# Altium footprint library QFN.PCBLIB: 11 footprints
Each footprint in its own frame and in the unit in brackets; x right, y up, seen from the top. Pads: shape width x height; smd on the part's side, far side on the other; paste and mask are expansions set on the pad; w line width, h text height; cw(c..) or ccw(c..) is an arc to the next point about the centre after c.
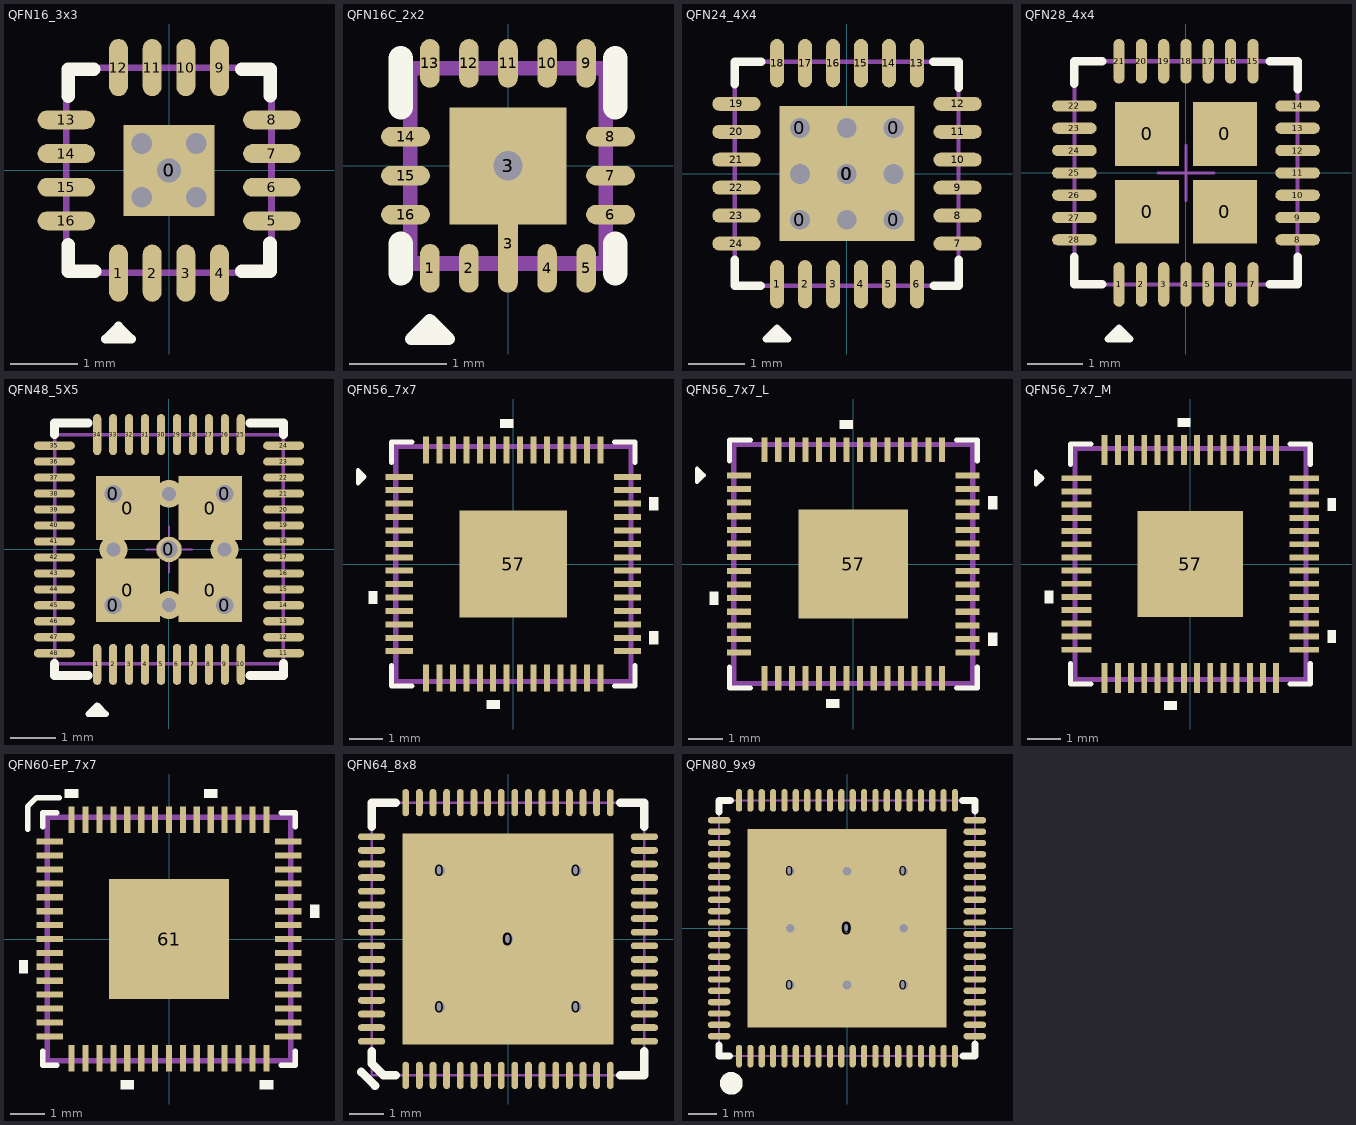
[diagram p0: the footprints below, top view; thin cyan lines are the x and y axes]

## QFN16_3x3 [mm]
pads (18):
  round 0.508 hole 0.356: 0(0,0)
  rect 1.35x1.35 smd mask+0.051: 0(0,0)
  oval 0.28x0.85 smd mask+0.051: 1(-0.75,-1.526) 2(-0.25,-1.526) 3(0.25,-1.526) 4(0.75,-1.526) 9(0.75,1.526) 10(0.25,1.526) 11(-0.25,1.526) 12(-0.75,1.526)
  oval 0.85x0.28 smd mask+0.051: 5(1.526,-0.75) 6(1.526,-0.25) 7(1.526,0.25) 8(1.526,0.75) 13(-1.526,0.75) 14(-1.526,0.25) 15(-1.526,-0.25) 16(-1.526,-0.75)
via -0.405,0.399 diameter 0.508 hole 0.305
via 0.405,0.399 diameter 0.508 hole 0.305
via 0.405,-0.399 diameter 0.508 hole 0.305
via -0.405,-0.399 diameter 0.508 hole 0.305
Top Overlay:
  lines w0.127: -0.75,-2.504 -0.75,-2.31 ; -0.75,-2.31 -0.944,-2.504 -0.556,-2.504 -0.75,-2.31
  lines w0.203: -1.497,-1.108 -1.497,-1.5 -1.105,-1.5 ; -1.497,1.105 -1.497,1.5 -1.118,1.5 ; 1.079,-1.5 1.5,-1.5 1.5,-1.08 ; 1.082,1.5 1.503,1.5 1.503,1.108
Top 元件外形:
  lines w0.1: -1.524,-1.519 1.521,-1.519 1.521,1.523 -1.524,1.523 -1.524,-1.519
Top 中心点:
  lines w0.051: -0.5,0 0.5,0 ; 0,-0.5 0,0.5
3D body: height 0.25, standoff 0, extent -1.521,-1.519 1.521,1.523

## QFN16C_2x2 [mm]
pads (18):
  oval 0.2x0.5 smd mask+0.051: 1(-0.8,-1.05) 2(-0.4,-1.05) 4(0.4,-1.05) 5(0.8,-1.05) 9(0.8,1.05) 10(0.4,1.05) 11(0,1.05) 12(-0.4,1.05) 13(-0.8,1.05)
  oval 0.2x1 smd mask+0.051: 3(0,-0.8)
  round 0.5 hole 0.3 mask+0.051: 3(0,0)
  rect 1.2x1.2 smd mask+0.051: 3(0,0)
  oval 0.5x0.2 smd mask+0.051: 6(1.05,-0.5) 7(1.05,-0.1) 8(1.05,0.3) 14(-1.05,0.3) 15(-1.05,-0.1) 16(-1.05,-0.5)
Top Overlay:
  lines w0.127: -0.8,-1.774 -0.8,-1.58 ; -0.8,-1.58 -0.994,-1.774 -0.606,-1.774 -0.8,-1.58
  lines w0.254: -1.1,-1.1 -1.1,-0.8 ; -1.1,0.6 -1.1,1.1 ; 1.1,-1.1 1.1,-0.8 ; 1.1,0.6 1.1,1.1
Top 元件外形:
  lines w0.15: -1,-1 -1,1 1,1 1,-1 -1,-1
Top 中心点:
  lines w0.051: -0.5,0 0.5,0 ; 0,-0.5 0,0.5

## QFN24_4X4 [mil]
pads (30):
  round 20 hole 14: 0(-33,-32.3) 0(-33,32.3) 0(0,0) 0(33,-32.3) 0(33,32.3)
  rect 95x95 smd mask+2: 0(0.21,0.1)
  oval 9.84x34 smd mask+2: 1(-49,-77.7) 2(-29.32,-77.7) 3(-9.63,-77.7) 4(10.05,-77.7) 5(29.74,-77.7) 6(49.42,-77.7) 13(49.42,77.91) 14(29.74,77.91) 15(10.06,77.91) 16(-9.63,77.91) 17(-29.32,77.91) 18(-49,77.91)
  oval 34x9.84 smd mask+2: 7(78.02,-49.11) 8(78.02,-29.42) 9(78.02,-9.74) 10(78.02,9.95) 11(78.02,29.63) 12(78.02,49.32) 19(-77.59,49.32) 20(-77.59,29.63) 21(-77.59,9.95) 22(-77.59,-9.74) 23(-77.59,-29.42) 24(-77.59,-49.11)
via 0,32.3 diameter 20 hole 14
via -33,0 diameter 20 hole 14
via 0,-32.3 diameter 20 hole 14
via 33,0 diameter 20 hole 14
Top Overlay:
  lines w5: -49,-116.2 -49,-108.57 ; -49,-108.57 -41.36,-116.2 -56.64,-116.2 -49,-108.57
  lines w6: -78.77,-60.34 -78.77,-78.66 -60.32,-78.66 ; -78.77,63.08 -78.77,78.83 -60.27,78.83 ; 60.88,78.83 78.71,78.83 78.71,60.49 ; 61.26,-78.66 78.71,-78.66 78.71,-60.33
Top 元件外形:
  lines w3: -78.77,-78.66 78.71,-78.66 78.71,78.83 -78.77,78.83 -78.77,-78.66
Top 中心点:
  lines w2: -19.68,0 19.68,0 ; 0,-19.68 0,19.68
3D body "User Library-QFN24.STEP": height 35.43, standoff 0, extent -78.94,-78.94 78.94,78.94

## QFN28_4x4 [mm]
pads (32):
  rect 1.143x1.143 smd mask+0: 0(-0.699,-0.699) 0(-0.699,0.698) 0(0.699,-0.699) 0(0.699,0.698)
  oval 0.2x0.8 smd mask+0.051: 1(-1.2,-2) 2(-0.8,-2) 3(-0.4,-2) 4(0,-2) 5(0.4,-2) 6(0.8,-2) 7(1.2,-2) 15(1.2,2) 16(0.8,2) 17(0.4,2) 18(0,2) 19(-0.4,2) 20(-0.8,2) 21(-1.2,2)
  oval 0.8x0.2 smd mask+0.051: 8(2,-1.2) 9(2,-0.8) 10(2,-0.4) 11(2,0) 12(2,0.4) 13(2,0.8) 14(2,1.2) 22(-2,1.2) 23(-2,0.8) 24(-2,0.4) 25(-2,0) 26(-2,-0.4) 27(-2,-0.8) 28(-2,-1.2)
Top Overlay:
  lines w0.127: -1.2,-2.978 -1.2,-2.784 ; -1.2,-2.784 -1.006,-2.978 -1.394,-2.978 -1.2,-2.784
  lines w0.152: -2,-1.5 -2,-2 -1.5,-2 ; -2,1.6 -2,2 -1.5,2 ; 1.5,-2 2,-2 2,-1.5 ; 1.5,2 2,2 2,1.5
Top 元件外形:
  lines w0.076: -2,-2 2,-2 2,2 -2,2 -2,-2
Top 中心点:
  lines w0.051: -0.5,0 0.5,0 ; 0,-0.5 0,0.5
3D body "User Library-QFN-28_EP_4x4_Pitch0_4mm.step": height 0.54, standoff -0.02, extent -2.01,-2.01 2.01,2.01

## QFN48_5X5 [mm]
pads (57):
  round 0.559 hole 0.381 mask+0.102: 0(-1.219,-1.219) 0(-1.219,1.219) 0(0,0) 0(1.219,-1.219) 0(1.219,1.219)
  rect 1.397x1.397 smd mask+0: 0(-0.901,-0.895) 0(-0.901,0.908) 0(0.902,-0.895) 0(0.902,0.908)
  oval 0.18x0.9 smd mask+0.051: 1(-1.575,-2.519) 2(-1.225,-2.519) 3(-0.875,-2.519) 4(-0.525,-2.519) 5(-0.175,-2.519) 6(0.175,-2.519) 7(0.525,-2.519) 8(0.875,-2.519) 9(1.225,-2.519) 10(1.575,-2.519) 25(1.575,2.519) 26(1.225,2.519) 27(0.875,2.519) 28(0.525,2.519) 29(0.175,2.519) 30(-0.175,2.519) 31(-0.525,2.519) 32(-0.875,2.519) 33(-1.225,2.519) 34(-1.575,2.519)
  oval 0.9x0.18 smd mask+0.051: 11(2.514,-2.275) 12(2.514,-1.925) 13(2.514,-1.575) 14(2.514,-1.225) 15(2.514,-0.875) 16(2.514,-0.525) 17(2.514,-0.175) 18(2.514,0.175) 19(2.514,0.525) 20(2.514,0.875) 21(2.514,1.225) 22(2.514,1.575) 23(2.514,1.925) 24(2.514,2.275) 35(-2.514,2.275) 36(-2.514,1.925) 37(-2.514,1.575) 38(-2.514,1.225) 39(-2.514,0.875) 40(-2.514,0.525) 41(-2.514,0.175) 42(-2.514,-0.175) 43(-2.514,-0.525) 44(-2.514,-0.875) 45(-2.514,-1.225) 46(-2.514,-1.575) 47(-2.514,-1.925) 48(-2.514,-2.275)
via 0,1.219 diameter 0.61 hole 0.305
via -1.219,0 diameter 0.61 hole 0.305
via 0,-1.219 diameter 0.61 hole 0.305
via 1.219,0 diameter 0.61 hole 0.305
Top Overlay:
  lines w0.127: -1.575,-3.607 -1.575,-3.413 ; -1.575,-3.413 -1.381,-3.607 -1.769,-3.607 -1.575,-3.413
  lines w0.2: -2.509,-2.506 -2.509,-2.76 -1.778,-2.76 ; -2.509,2.519 -2.509,2.772 -1.778,2.772 ; 1.778,-2.76 2.509,-2.76 2.509,-2.506 ; 1.778,2.772 2.509,2.772 2.509,2.519
Top 元件外形:
  lines w0.076: -2.509,-2.506 2.509,-2.506 2.509,2.519 -2.509,2.519 -2.509,-2.506
Top 中心点:
  lines w0.051: -0.5,0 0.5,0 ; 0,-0.5 0,0.5
3D body "User Library-User Library-QFN-48(5x5).step": height 0.55, standoff -0.02, extent -2.51,-2.51 2.51,2.51

## QFN56_7x7 [mm]
pads (57):
  rect 0.808x0.179 smd paste+0: 1(-3.401,2.6) 2(-3.401,2.2) 3(-3.401,1.8) 4(-3.401,1.4) 5(-3.401,1) 6(-3.401,0.6) 7(-3.401,0.2) 8(-3.401,-0.2) 9(-3.401,-0.6) 10(-3.401,-1) 11(-3.401,-1.4) 12(-3.401,-1.8) 13(-3.401,-2.2) 14(-3.401,-2.6) 29(3.401,-2.6) 30(3.401,-2.2) 31(3.401,-1.8) 32(3.401,-1.4) 33(3.401,-1) 34(3.401,-0.6) 35(3.401,-0.2) 36(3.401,0.2) 37(3.401,0.6) 38(3.401,1) 39(3.401,1.4) 40(3.401,1.8) 41(3.401,2.2) 42(3.401,2.6)
  rect 0.179x0.808 smd paste+0: 15(-2.6,-3.401) 16(-2.2,-3.401) 17(-1.8,-3.401) 18(-1.4,-3.401) 19(-1,-3.401) 20(-0.6,-3.401) 21(-0.2,-3.401) 22(0.2,-3.401) 23(0.6,-3.401) 24(1,-3.401) 25(1.4,-3.401) 26(1.8,-3.401) 27(2.2,-3.401) 28(2.6,-3.401) 43(2.6,3.401) 44(2.2,3.401) 45(1.8,3.401) 46(1.4,3.401) 47(1,3.401) 48(0.6,3.401) 49(0.2,3.401) 50(-0.2,3.401) 51(-0.6,3.401) 52(-1,3.401) 53(-1.4,3.401) 54(-1.8,3.401) 55(-2.2,3.401) 56(-2.6,3.401)
  rect 3.2x3.2 smd paste-1.6: 57(0,0)
Top Overlay:
  region: -4.059,-0.81 -4.313,-0.81 -4.313,-1.191 -4.059,-1.191
  region: -0.409,-4.059 -0.79,-4.059 -0.79,-4.313 -0.409,-4.313
  region: 4.059,-2.01 4.313,-2.01 4.313,-2.391 4.059,-2.391
  region: 4.059,1.99 4.313,1.99 4.313,1.609 4.059,1.609
  region: -0.009,4.059 -0.39,4.059 -0.39,4.313 -0.009,4.313
  lines w0.127: -4.632,2.6 -4.438,2.6 ; -4.438,2.6 -4.632,2.406 -4.632,2.794 -4.438,2.6
  lines w0.152: -3.632,-3.022 -3.632,-3.632 -3.022,-3.632 ; -3.632,3.022 -3.632,3.632 -3.022,3.632 ; 3.022,-3.632 3.632,-3.632 3.632,-3.022 ; 3.022,3.632 3.632,3.632 3.632,3.022
Top Paste:
  region: -0.1,1.5 -1.5,1.5 -1.5,0.1 -0.1,0.1
  region: -0.1,-0.1 -1.5,-0.1 -1.5,-1.5 -0.1,-1.5
  region: 1.5,1.5 0.1,1.5 0.1,0.1 1.5,0.1
  region: 1.5,-0.1 0.1,-0.1 0.1,-1.5 1.5,-1.5
Top 元件外形:
  lines w0.152: -3.505,-3.505 -3.505,-2.943 -3.505,2.943 -3.505,3.505 -2.943,3.505 2.943,3.505 3.505,3.505 3.505,2.943 3.505,-2.943 3.505,-3.505 2.943,-3.505 -2.943,-3.505 -3.505,-3.505
Top 中心点:
  lines w0.127: -0.5,0 0.5,0 ; 0,-0.5 0,0.5
3D body "IC57_RP2040.step": height 0.89, standoff 0, extent -3.505,-3.505 3.505,3.505

## QFN56_7x7_L [mm]
pads (57):
  rect 0.708x0.179 smd paste+0: 1(-3.351,2.6) 2(-3.351,2.2) 3(-3.351,1.8) 4(-3.351,1.4) 5(-3.351,1) 6(-3.351,0.6) 7(-3.351,0.2) 8(-3.351,-0.2) 9(-3.351,-0.6) 10(-3.351,-1) 11(-3.351,-1.4) 12(-3.351,-1.8) 13(-3.351,-2.2) 14(-3.351,-2.6) 29(3.351,-2.6) 30(3.351,-2.2) 31(3.351,-1.8) 32(3.351,-1.4) 33(3.351,-1) 34(3.351,-0.6) 35(3.351,-0.2) 36(3.351,0.2) 37(3.351,0.6) 38(3.351,1) 39(3.351,1.4) 40(3.351,1.8) 41(3.351,2.2) 42(3.351,2.6)
  rect 0.179x0.708 smd paste+0: 15(-2.6,-3.351) 16(-2.2,-3.351) 17(-1.8,-3.351) 18(-1.4,-3.351) 19(-1,-3.351) 20(-0.6,-3.351) 21(-0.2,-3.351) 22(0.2,-3.351) 23(0.6,-3.351) 24(1,-3.351) 25(1.4,-3.351) 26(1.8,-3.351) 27(2.2,-3.351) 28(2.6,-3.351) 43(2.6,3.351) 44(2.2,3.351) 45(1.8,3.351) 46(1.4,3.351) 47(1,3.351) 48(0.6,3.351) 49(0.2,3.351) 50(-0.2,3.351) 51(-0.6,3.351) 52(-1,3.351) 53(-1.4,3.351) 54(-1.8,3.351) 55(-2.2,3.351) 56(-2.6,3.351)
  rect 3.2x3.2 smd paste-1.6: 57(0,0)
Top Overlay:
  region: -0.009,3.959 -0.39,3.959 -0.39,4.213 -0.009,4.213
  region: 3.959,1.99 4.213,1.99 4.213,1.609 3.959,1.609
  region: 3.959,-2.01 4.213,-2.01 4.213,-2.391 3.959,-2.391
  region: -0.409,-3.959 -0.79,-3.959 -0.79,-4.213 -0.409,-4.213
  region: -3.959,-0.81 -4.213,-0.81 -4.213,-1.191 -3.959,-1.191
  lines w0.127: -4.582,2.6 -4.388,2.6 ; -4.582,2.406 -4.388,2.6 ; -4.582,2.406 -4.582,2.406 ; -4.582,2.406 -4.582,2.794 ; -4.582,2.794 -4.388,2.6 ; -4.582,2.794 -4.582,2.794
  lines w0.152: -3.632,-3.022 -3.632,-3.632 -3.022,-3.632 ; -3.632,3.022 -3.632,3.632 -3.022,3.632 ; 3.022,-3.632 3.632,-3.632 3.632,-3.022 ; 3.022,3.632 3.632,3.632 3.632,3.022
Top Paste:
  region: 1.5,-0.1 0.1,-0.1 0.1,-1.5 1.5,-1.5
  region: 1.5,1.5 0.1,1.5 0.1,0.1 1.5,0.1
  region: -0.1,-0.1 -1.5,-0.1 -1.5,-1.5 -0.1,-1.5
  region: -0.1,1.5 -1.5,1.5 -1.5,0.1 -0.1,0.1
Top 元件外形:
  lines w0.152: -3.505,-3.505 -3.505,3.505 3.505,3.505 3.505,-3.505 -3.505,-3.505
Top 中心点:
  lines w0.127: -0.5,0 0.5,0 ; 0,-0.5 0,0.5
3D body "IC57_RP2040.step": height 0.89, standoff 0, extent -3.505,-3.505 3.505,3.505

## QFN56_7x7_M [mm]
pads (57):
  rect 0.908x0.179 smd paste+0: 1(-3.451,2.6) 2(-3.451,2.2) 3(-3.451,1.8) 4(-3.451,1.4) 5(-3.451,1) 6(-3.451,0.6) 7(-3.451,0.2) 8(-3.451,-0.2) 9(-3.451,-0.6) 10(-3.451,-1) 11(-3.451,-1.4) 12(-3.451,-1.8) 13(-3.451,-2.2) 14(-3.451,-2.6) 29(3.451,-2.6) 30(3.451,-2.2) 31(3.451,-1.8) 32(3.451,-1.4) 33(3.451,-1) 34(3.451,-0.6) 35(3.451,-0.2) 36(3.451,0.2) 37(3.451,0.6) 38(3.451,1) 39(3.451,1.4) 40(3.451,1.8) 41(3.451,2.2) 42(3.451,2.6)
  rect 0.179x0.908 smd paste+0: 15(-2.6,-3.451) 16(-2.2,-3.451) 17(-1.8,-3.451) 18(-1.4,-3.451) 19(-1,-3.451) 20(-0.6,-3.451) 21(-0.2,-3.451) 22(0.2,-3.451) 23(0.6,-3.451) 24(1,-3.451) 25(1.4,-3.451) 26(1.8,-3.451) 27(2.2,-3.451) 28(2.6,-3.451) 43(2.6,3.451) 44(2.2,3.451) 45(1.8,3.451) 46(1.4,3.451) 47(1,3.451) 48(0.6,3.451) 49(0.2,3.451) 50(-0.2,3.451) 51(-0.6,3.451) 52(-1,3.451) 53(-1.4,3.451) 54(-1.8,3.451) 55(-2.2,3.451) 56(-2.6,3.451)
  rect 3.2x3.2 smd paste-1.6: 57(0,0)
Top Overlay:
  region: -0.009,4.159 -0.39,4.159 -0.39,4.413 -0.009,4.413
  region: 4.159,1.99 4.413,1.99 4.413,1.609 4.159,1.609
  region: 4.159,-2.01 4.413,-2.01 4.413,-2.391 4.159,-2.391
  region: -0.409,-4.159 -0.79,-4.159 -0.79,-4.413 -0.409,-4.413
  region: -4.159,-0.81 -4.413,-0.81 -4.413,-1.191 -4.159,-1.191
  lines w0.127: -4.682,2.6 -4.488,2.6 ; -4.682,2.406 -4.682,2.794 ; -4.682,2.406 -4.682,2.406 ; -4.682,2.406 -4.488,2.6 ; -4.682,2.794 -4.682,2.794 ; -4.682,2.794 -4.488,2.6
  lines w0.152: -3.632,-3.022 -3.632,-3.632 -3.022,-3.632 ; -3.632,3.022 -3.632,3.632 -3.022,3.632 ; 3.022,-3.632 3.632,-3.632 3.632,-3.022 ; 3.022,3.632 3.632,3.632 3.632,3.022
Top Paste:
  region: 1.5,-0.1 0.1,-0.1 0.1,-1.5 1.5,-1.5
  region: 1.5,1.5 0.1,1.5 0.1,0.1 1.5,0.1
  region: -0.1,-0.1 -1.5,-0.1 -1.5,-1.5 -0.1,-1.5
  region: -0.1,1.5 -1.5,1.5 -1.5,0.1 -0.1,0.1
Top 元件外形:
  lines w0.152: -3.505,-3.505 -3.505,3.505 3.505,3.505 3.505,-3.505 -3.505,-3.505
Top 中心点:
  lines w0.127: -0.5,0 0.5,0 ; 0,-0.5 0,0.5
3D body "IC57_RP2040.step": height 0.89, standoff 0, extent -3.505,-3.505 3.505,3.505

## QFN60-EP_7x7 [mm]
pads (61):
  rect 0.757x0.179 smd: 1(-3.427,2.8) 2(-3.427,2.4) 3(-3.427,2) 4(-3.427,1.6) 5(-3.427,1.2) 6(-3.427,0.8) 7(-3.427,0.4) 8(-3.427,0) 9(-3.427,-0.4) 10(-3.427,-0.8) 11(-3.427,-1.2) 12(-3.427,-1.6) 13(-3.427,-2) 14(-3.427,-2.4) 15(-3.427,-2.8) 31(3.427,-2.8) 32(3.427,-2.4) 33(3.427,-2) 34(3.427,-1.6) 35(3.427,-1.2) 36(3.427,-0.8) 37(3.427,-0.4) 38(3.427,0) 39(3.427,0.4) 40(3.427,0.8) 41(3.427,1.2) 42(3.427,1.6) 43(3.427,2) 44(3.427,2.4) 45(3.427,2.8)
  rect 0.179x0.757 smd: 16(-2.8,-3.427) 17(-2.4,-3.427) 18(-2,-3.427) 19(-1.6,-3.427) 20(-1.2,-3.427) 21(-0.8,-3.427) 22(-0.4,-3.427) 23(0,-3.427) 24(0.4,-3.427) 25(0.8,-3.427) 26(1.2,-3.427) 27(1.6,-3.427) 28(2,-3.427) 29(2.4,-3.427) 30(2.8,-3.427) 46(2.8,3.427) 47(2.4,3.427) 48(2,3.427) 49(1.6,3.427) 50(1.2,3.427) 51(0.8,3.427) 52(0.4,3.427) 53(0,3.427) 54(-0.4,3.427) 55(-0.8,3.427) 56(-1.2,3.427) 57(-1.6,3.427) 58(-2,3.427) 59(-2.4,3.427) 60(-2.8,3.427)
  rect 3.454x3.454 smd: 61(0,0)
Top Overlay:
  region: -4.059,-0.61 -4.313,-0.61 -4.313,-0.991 -4.059,-0.991
  region: -1.01,-4.059 -1.391,-4.059 -1.391,-4.313 -1.01,-4.313
  region: 2.99,-4.059 2.609,-4.059 2.609,-4.313 2.99,-4.313
  region: 4.059,0.991 4.313,0.991 4.313,0.61 4.059,0.61
  region: 1.391,4.059 1.01,4.059 1.01,4.313 1.391,4.313
  region: -2.609,4.059 -2.99,4.059 -2.99,4.313 -2.609,4.313
  lines w0.152: -4.064,3.146 -4.064,3.81 -3.81,4.064 -3.146,4.064 ; -3.632,-3.222 -3.632,-3.632 -3.222,-3.632 ; -3.632,3.222 -3.632,3.632 -3.222,3.632 ; 3.222,-3.632 3.632,-3.632 3.632,-3.222 ; 3.222,3.632 3.632,3.632 3.632,3.222
Top Paste:
  region: -0.1,1.627 -1.627,1.627 -1.627,0.1 -0.1,0.1
  region: -0.1,-0.1 -1.627,-0.1 -1.627,-1.627 -0.1,-1.627
  region: 1.627,1.627 0.1,1.627 0.1,0.1 1.627,0.1
  region: 1.627,-0.1 0.1,-0.1 0.1,-1.627 1.627,-1.627
Top 元件外形:
  lines w0.152: -3.505,-3.505 -3.505,-3.143 -3.505,3.143 -3.505,3.505 -3.143,3.505 3.143,3.505 3.505,3.505 3.505,3.143 3.505,-3.143 3.505,-3.505 -3.143,-3.505 -3.505,-3.505
3D body "QFN-60_7X7_RPI.step": height 0.89, standoff 0, extent -3.505,-3.505 3.505,3.505

## QFN64_8x8 [mm]
pads (70):
  round 0.61 hole 0.305 mask+0.051: 0(-2,-2) 0(-2,2) 0(0,0) 0(2,-2) 0(2,2)
  rect 6.2x6.2 smd mask+0.051: 0(0,0)
  oval 0.2x0.8 smd mask+0.051: 1(-3,-4) 2(-2.6,-4) 3(-2.2,-4) 4(-1.8,-4) 5(-1.4,-4) 6(-1,-4) 7(-0.6,-4) 8(-0.2,-4) 9(0.2,-4) 10(0.6,-4) 11(1,-4) 12(1.4,-4) 13(1.8,-4) 14(2.2,-4) 15(2.6,-4) 16(3,-4) 33(3,4) 34(2.6,4) 35(2.2,4) 36(1.8,4) 37(1.4,4) 38(1,4) 39(0.6,4) 40(0.2,4) 41(-0.2,4) 42(-0.6,4) 43(-1,4) 44(-1.4,4) 45(-1.8,4) 46(-2.2,4) 47(-2.6,4) 48(-3,4)
  oval 0.8x0.2 smd mask+0.051: 17(4,-3) 18(4,-2.6) 19(4,-2.2) 20(4,-1.8) 21(4,-1.4) 22(4,-1) 23(4,-0.6) 24(4,-0.2) 25(4,0.2) 26(4,0.6) 27(4,1) 28(4,1.4) 29(4,1.8) 30(4,2.2) 31(4,2.6) 32(4,3) 49(-4,3) 50(-4,2.6) 51(-4,2.2) 52(-4,1.8) 53(-4,1.4) 54(-4,1) 55(-4,0.6) 56(-4,0.2) 57(-4,-0.2) 58(-4,-0.6) 59(-4,-1) 60(-4,-1.4) 61(-4,-1.8) 62(-4,-2.2) 63(-4,-2.6) 64(-4,-3)
Top Overlay:
  lines w0.254: -4.3,-3.9 -3.9,-4.3 ; -4,-3.3 -4,-3.65 -3.65,-4 -3.3,-4 ; -4,3.3 -4,4 -3.3,4 ; 3.3,-4 4,-4 4,-3.3 ; 3.3,4 4,4 4,3.3
Top 元件外形:
  lines w0.076: -4,-4 -4,4 4,4 4,-4 -4,-4
Top 中心点:
  lines w0.051: -0.5,0 0.5,0 ; 0,-0.5 0,0.5

## QFN80_9x9 [mm]
pads (86):
  round 0.61 hole 0.305 mask+0.051: 0(-2,-2) 0(-2,2) 0(0,0) 0(2,-2) 0(2,2)
  rect 7x7 smd mask+0.051: 0(0,0)
  oval 0.22x0.8 smd mask+0.051: 1(-3.8,-4.5) 2(-3.4,-4.5) 3(-3,-4.5) 4(-2.6,-4.5) 5(-2.2,-4.5) 6(-1.8,-4.5) 7(-1.4,-4.5) 8(-1,-4.5) 9(-0.6,-4.5) 10(-0.2,-4.5) 11(0.2,-4.5) 12(0.6,-4.5) 13(1,-4.5) 14(1.4,-4.5) 15(1.8,-4.5) 16(2.2,-4.5) 17(2.6,-4.5) 18(3,-4.5) 19(3.4,-4.5) 20(3.8,-4.5) 41(3.8,4.5) 42(3.4,4.5) 43(3,4.5) 44(2.6,4.5) 45(2.2,4.5) 46(1.8,4.5) 47(1.4,4.5) 48(1,4.5) 49(0.6,4.5) 50(0.2,4.5) 51(-0.2,4.5) 52(-0.6,4.5) 53(-1,4.5) 54(-1.4,4.5) 55(-1.8,4.5) 56(-2.2,4.5) 57(-2.6,4.5) 58(-3,4.5) 59(-3.4,4.5) 60(-3.8,4.5)
  oval 0.8x0.22 smd mask+0.051: 21(4.5,-3.8) 22(4.5,-3.4) 23(4.5,-3) 24(4.5,-2.6) 25(4.5,-2.2) 26(4.5,-1.8) 27(4.5,-1.4) 28(4.5,-1) 29(4.5,-0.6) 30(4.5,-0.2) 31(4.5,0.2) 32(4.5,0.6) 33(4.5,1) 34(4.5,1.4) 35(4.5,1.8) 36(4.5,2.2) 37(4.5,2.6) 38(4.5,3) 39(4.5,3.4) 40(4.5,3.8) 61(-4.5,3.8) 62(-4.5,3.4) 63(-4.5,3) 64(-4.5,2.6) 65(-4.5,2.2) 66(-4.5,1.8) 67(-4.5,1.4) 68(-4.5,1) 69(-4.5,0.6) 70(-4.5,0.2) 71(-4.5,-0.2) 72(-4.5,-0.6) 73(-4.5,-1) 74(-4.5,-1.4) 75(-4.5,-1.8) 76(-4.5,-2.2) 77(-4.5,-2.6) 78(-4.5,-3) 79(-4.5,-3.4) 80(-4.5,-3.8)
via 0,2 diameter 0.61 hole 0.305
via 2,0 diameter 0.61 hole 0.305
via 0,-2 diameter 0.61 hole 0.305
via -2,0 diameter 0.61 hole 0.305
Top Overlay:
  circle w0.4: c-4.073,-5.457 r0.2
  lines w0.254: -4.5,-4.121 -4.5,-4.5 -4.135,-4.5 ; -4.5,4.095 -4.5,4.5 -4.095,4.5 ; 4.069,4.5 4.5,4.5 4.5,4.137 ; 4.082,-4.5 4.5,-4.5 4.5,-4.079
Top 元件外形:
  lines w0.076: -4.5,-4.5 4.5,-4.5 4.5,4.5 -4.5,4.5 -4.5,-4.5
Top 中心点:
  lines w0.051: -0.5,0 0.5,0 ; 0,-0.5 0,0.5